# EAGLE library part FT311D-32L1C-T (library AllAboutEE)
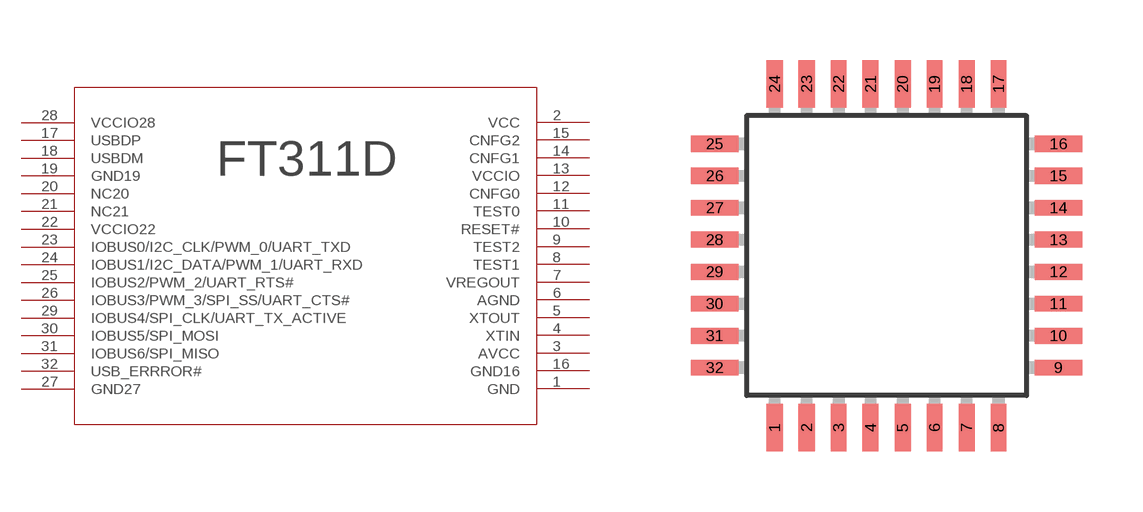
[diagram p11: symbol with the pads of LQFP32-7X7; footprint LQFP32-7X7]

Designator prefix -

## FT311D-32L1C-T  [LQFP32-7X7]
1  GND
2  VCC
3  AVCC
4  XTIN
5  XTOUT
6  AGND
7  VREGOUT
8  TEST1
9  TEST2
10  RESET#
11  TEST0
12  CNFG0
13  VCCIO
14  CNFG1
15  CNFG2
16  GND16
17  USBDP
18  USBDM
19  GND19
20  NC20
21  NC21
22  VCCIO22
23  IOBUS0/I2C_CLK/PWM_0/UART_TXD
24  IOBUS1/I2C_DATA/PWM_1/UART_RXD
25  IOBUS2/PWM_2/UART_RTS#
26  IOBUS3/PWM_3/SPI_SS/UART_CTS#
27  GND27
28  VCCIO28
29  IOBUS4/SPI_CLK/UART_TX_ACTIVE
30  IOBUS5/SPI_MOSI
31  IOBUS6/SPI_MISO
32  USB_ERRROR#

## Footprint LQFP32-7X7 (pad centres in mm)
LQFP-32 package 7x7 mm case, 0.8 mm lead pitch Sourced: Data sheet <http://www.st.com/stonline/products/literature/ds/14771/stm8s105c4.pdf>
smd 0.4 x 1.2: 1 -2.8,-4.3; 2 -2,-4.3; 3 -1.2,-4.3; 4 -0.4,-4.3; 5 0.4,-4.3; 6 1.2,-4.3; 7 2,-4.3; 8 2.8,-4.3; 17 2.8,4.3; 18 2,4.3; 19 1.2,4.3; 20 0.4,4.3; 21 -0.4,4.3; 22 -1.2,4.3; 23 -2,4.3; 24 -2.8,4.3
smd 1.2 x 0.4: 9 4.3,-2.8; 10 4.3,-2; 11 4.3,-1.2; 12 4.3,-0.4; 13 4.3,0.4; 14 4.3,1.2; 15 4.3,2; 16 4.3,2.8; 25 -4.3,2.8; 26 -4.3,2; 27 -4.3,1.2; 28 -4.3,0.4; 29 -4.3,-0.4; 30 -4.3,-1.2; 31 -4.3,-2; 32 -4.3,-2.8